# EAGLE library part ATMEGA48 (library ads4)
Atmel ATmega48 microcontroller
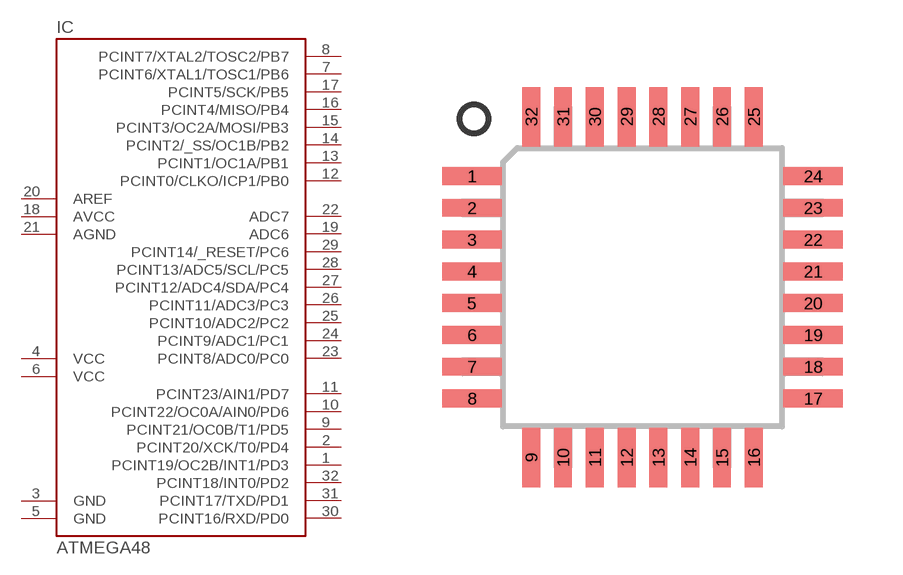
[diagram p82: symbol with the pads of TQFP32-08; footprint TQFP32-08]

Designator prefix IC

## ATMEGA4832A  [TQFP32-08]
1  PCINT19/OC2B/INT1/PD3
2  PCINT20/XCK/T0/PD4
3  GND  pwr
4  VCC  pwr
5  GND  pwr
6  VCC  pwr
7  PCINT6/XTAL1/TOSC1/PB6
8  PCINT7/XTAL2/TOSC2/PB7
9  PCINT21/OC0B/T1/PD5
10  PCINT22/OC0A/AIN0/PD6
11  PCINT23/AIN1/PD7
12  PCINT0/CLKO/ICP1/PB0
13  PCINT1/OC1A/PB1
14  PCINT2/_SS/OC1B/PB2
15  PCINT3/OC2A/MOSI/PB3
16  PCINT4/MISO/PB4
17  PCINT5/SCK/PB5
18  AVCC  pwr
19  ADC6  pas
20  AREF  pwr
21  AGND  pwr
22  ADC7  pas
23  PCINT8/ADC0/PC0
24  PCINT9/ADC1/PC1
25  PCINT10/ADC2/PC2
26  PCINT11/ADC3/PC3
27  PCINT12/ADC4/SDA/PC4
28  PCINT13/ADC5/SCL/PC5
29  PCINT14/_RESET/PC6
30  PCINT16/RXD/PD0
31  PCINT17/TXD/PD1
32  PCINT18/INT0/PD2

## Footprint TQFP32-08 (pad centres in mm)
Thin Plasic Quad Flat Package Grid 0.8 mm, 7x7mm body Changed pads to be thinner and longer
smd 1.5 x 0.45: 1 -4.293,2.8; 2 -4.293,2; 3 -4.293,1.2; 4 -4.293,0.4; 5 -4.293,-0.4; 6 -4.293,-1.2; 7 -4.293,-2; 8 -4.293,-2.8; 17 4.293,-2.8; 18 4.293,-2; 19 4.293,-1.2; 20 4.293,-0.4; 21 4.293,0.4; 22 4.293,1.2; 23 4.293,2; 24 4.293,2.8
smd 0.45 x 1.5: 9 -2.8,-4.293; 10 -2,-4.293; 11 -1.2,-4.293; 12 -0.4,-4.293; 13 0.4,-4.293; 14 1.2,-4.293; 15 2,-4.293; 16 2.8,-4.293; 25 2.8,4.293; 26 2,4.293; 27 1.2,4.293; 28 0.4,4.293; 29 -0.4,4.293; 30 -1.2,4.293; 31 -2,4.293; 32 -2.8,4.293